# Altium schematic symbol library Microchip MCP2562.SchLib: 1 symbol
Pins are listed as number, name and electrical type; pins without a type are passive.

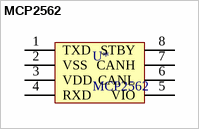
[diagram p0: symbol MCP2562]

## MCP2562
designator U*
1/1 Transceiver Full CAN 8-SOIC; Supplier 1: Digi-Key; Supplier Part Number 1: MCP2562-E/SN-ND
footprint MCP2562
footprint SOIC127P600X175-8N (SOIC, 8-Leads, Body 4.90x3.90mm, Pitch 1.27mm, IPC Medium Density)
pins: 1 TXD, 2 VSS, 3 VDD, 4 RXD, 5 VIO, 6 CANL, 7 CANH, 8 STBY